# EAGLE library part DRV8833 (library DRV8833PWP)
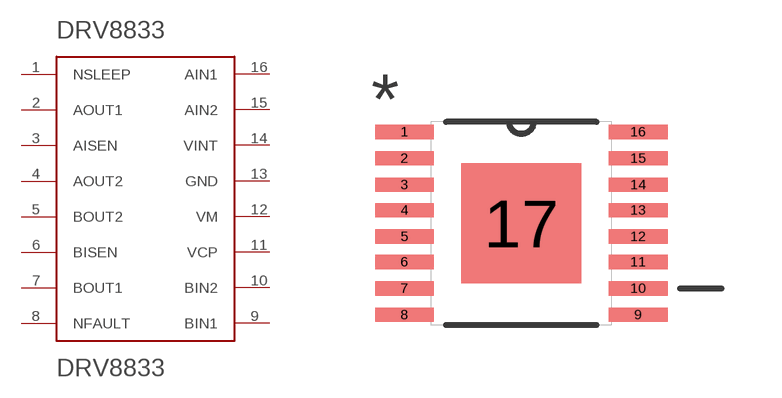
[diagram p0: symbol with the pads of SOP65P640X120-17N; footprint SOP65P640X120-17N]

Designator prefix DRV8833PWP

## DRV8833  [SOP65P640X120-17N]
1  NSLEEP
2  AOUT1
3  AISEN
4  AOUT2
5  BOUT2
6  BISEN
7  BOUT1
8  NFAULT
9  BIN1
10  BIN2
11  VCP
12  VM
13  GND
14  VINT
15  AIN2
16  AIN1

## Footprint SOP65P640X120-17N (pad centres in mm)
smd 1.473 x 0.356: 1 -2.921,2.286; 2 -2.921,1.626; 3 -2.921,0.965; 4 -2.921,0.33; 5 -2.921,-0.33; 6 -2.921,-0.965; 7 -2.921,-1.626; 8 -2.921,-2.286; 9 2.921,-2.286; 10 2.921,-1.626; 11 2.921,-0.965; 12 2.921,-0.33; 13 2.921,0.33; 14 2.921,0.965; 15 2.921,1.626; 16 2.921,2.286
smd 2.997 x 2.997: 17 0,0